# EAGLE library part LTC1152IS8TRPBF (library linear-technology-jqi)
LTC1152, rail-to-rail IO, zero-drift op-amp
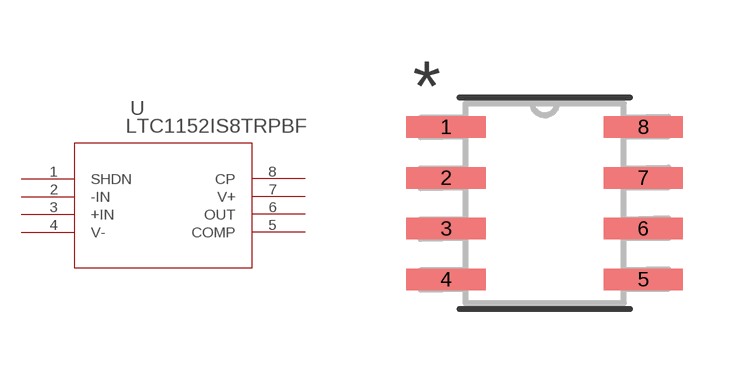
[diagram p1: symbol with the pads of SO-8_S; footprint SO-8_S]

Designator prefix U

## LTC1152IS8TRPBF (MANUFACTURER_PART_NUMBER: ltc1152is8#trpbf; VENDOR: Linear Technology)  [SO-8_S]
1  SHDN  pas
2  -IN  in
3  +IN  in
4  V-  pwr
5  COMP  pas
6  OUT  out
7  V+  pwr
8  CP  pas

## Footprint SO-8_S (pad centres in mm)
smd 1.981 x 0.533: 1 -2.464,1.905; 2 -2.464,0.635; 3 -2.464,-0.635; 4 -2.464,-1.905; 5 2.464,-1.905; 6 2.464,-0.635; 7 2.464,0.635; 8 2.464,1.905